# Altium integrated library LM2576S.IntLib: 1 symbol
Pins are listed as number, name and electrical type; pins without a type are passive.

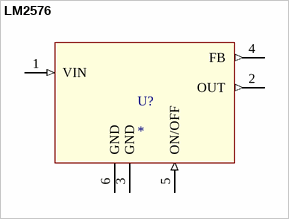
[diagram p0: symbol LM2576]

## LM2576
designator U?
SIMPLE SWITCHER&reg; 40V, 3A Low Component Count Step-Down Regulator 5-DDPAK/TO-263 -40 to 125; MP: LM2576S-12; MF: Texas Instruments; Value: *; SnapEDA_Link: https://www.snapeda.com/parts/LM2576S-12/Texas+Instruments/view-part/?ref=snap; Purchase-URL: https://pricing.snapeda.com/search/part/LM2576S-12/?ref=eda; Check_prices: https://www.snapeda.com/parts/LM2576S-12/Texas+Instruments/view-part/?ref=eda; Availability: In Stock; Price: None; Package: TO-263-5 Texas Instruments
footprint LM2576
pins: 1 VIN (in), 2 OUT (out), 3 GND (power), 4 FB (out), 5 ON/OFF (in), 6 GND (power)